# Altium footprint library VOD205T.PcbLib: 2 footprints
Each footprint in its own frame and in the unit in brackets; x right, y up, seen from the top. Pads: shape width x height; smd on the part's side, far side on the other; paste and mask are expansions set on the pad; w line width, h text height; cw(c..) or ccw(c..) is an arc to the next point about the centre after c.
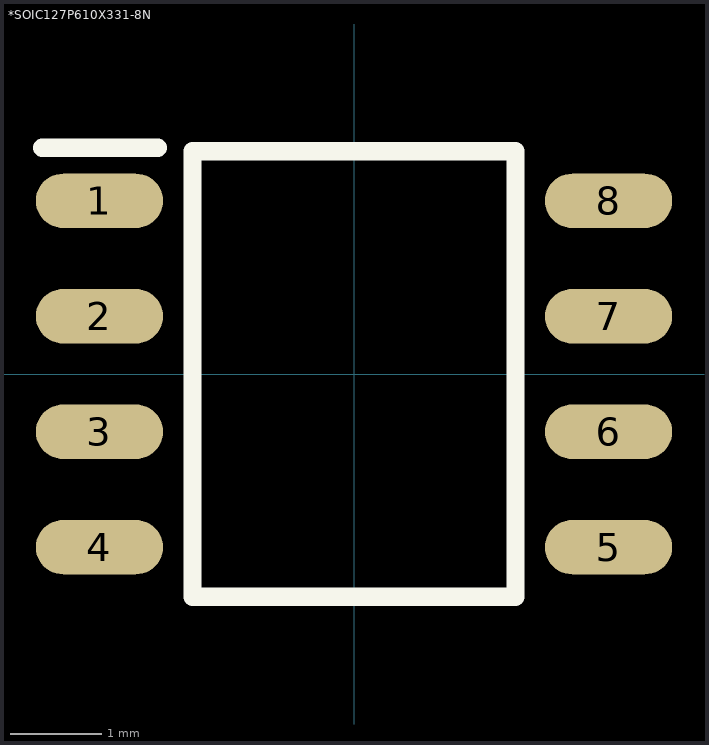
[diagram p0: the footprints below, top view; thin cyan lines are the x and y axes]

## *SOIC127P610X331-8N [mm]
pads (8):
  oval 1.4x0.6 smd: 1(-2.8,1.905) 2(-2.8,0.635) 3(-2.8,-0.635) 4(-2.8,-1.905) 5(2.8,-1.905) 6(2.8,-0.635) 7(2.8,0.635) 8(2.8,1.905)
Top Overlay:
  lines w0.2: -3.429,2.489 -2.159,2.489 ; -1.775,-2.45 -1.775,2.45 1.775,2.45 1.775,-2.45 -1.775,-2.45
3D body "OPTOISOLATOR.STEP": height 3.32, standoff 0, extent -3.05,-2.92 3.05,2.92

## PCBComponent_1 [mm]